# Altium schematic symbol library SparkFun-Connectors.SCHLIB: 399 symbols (part 4 of 4)
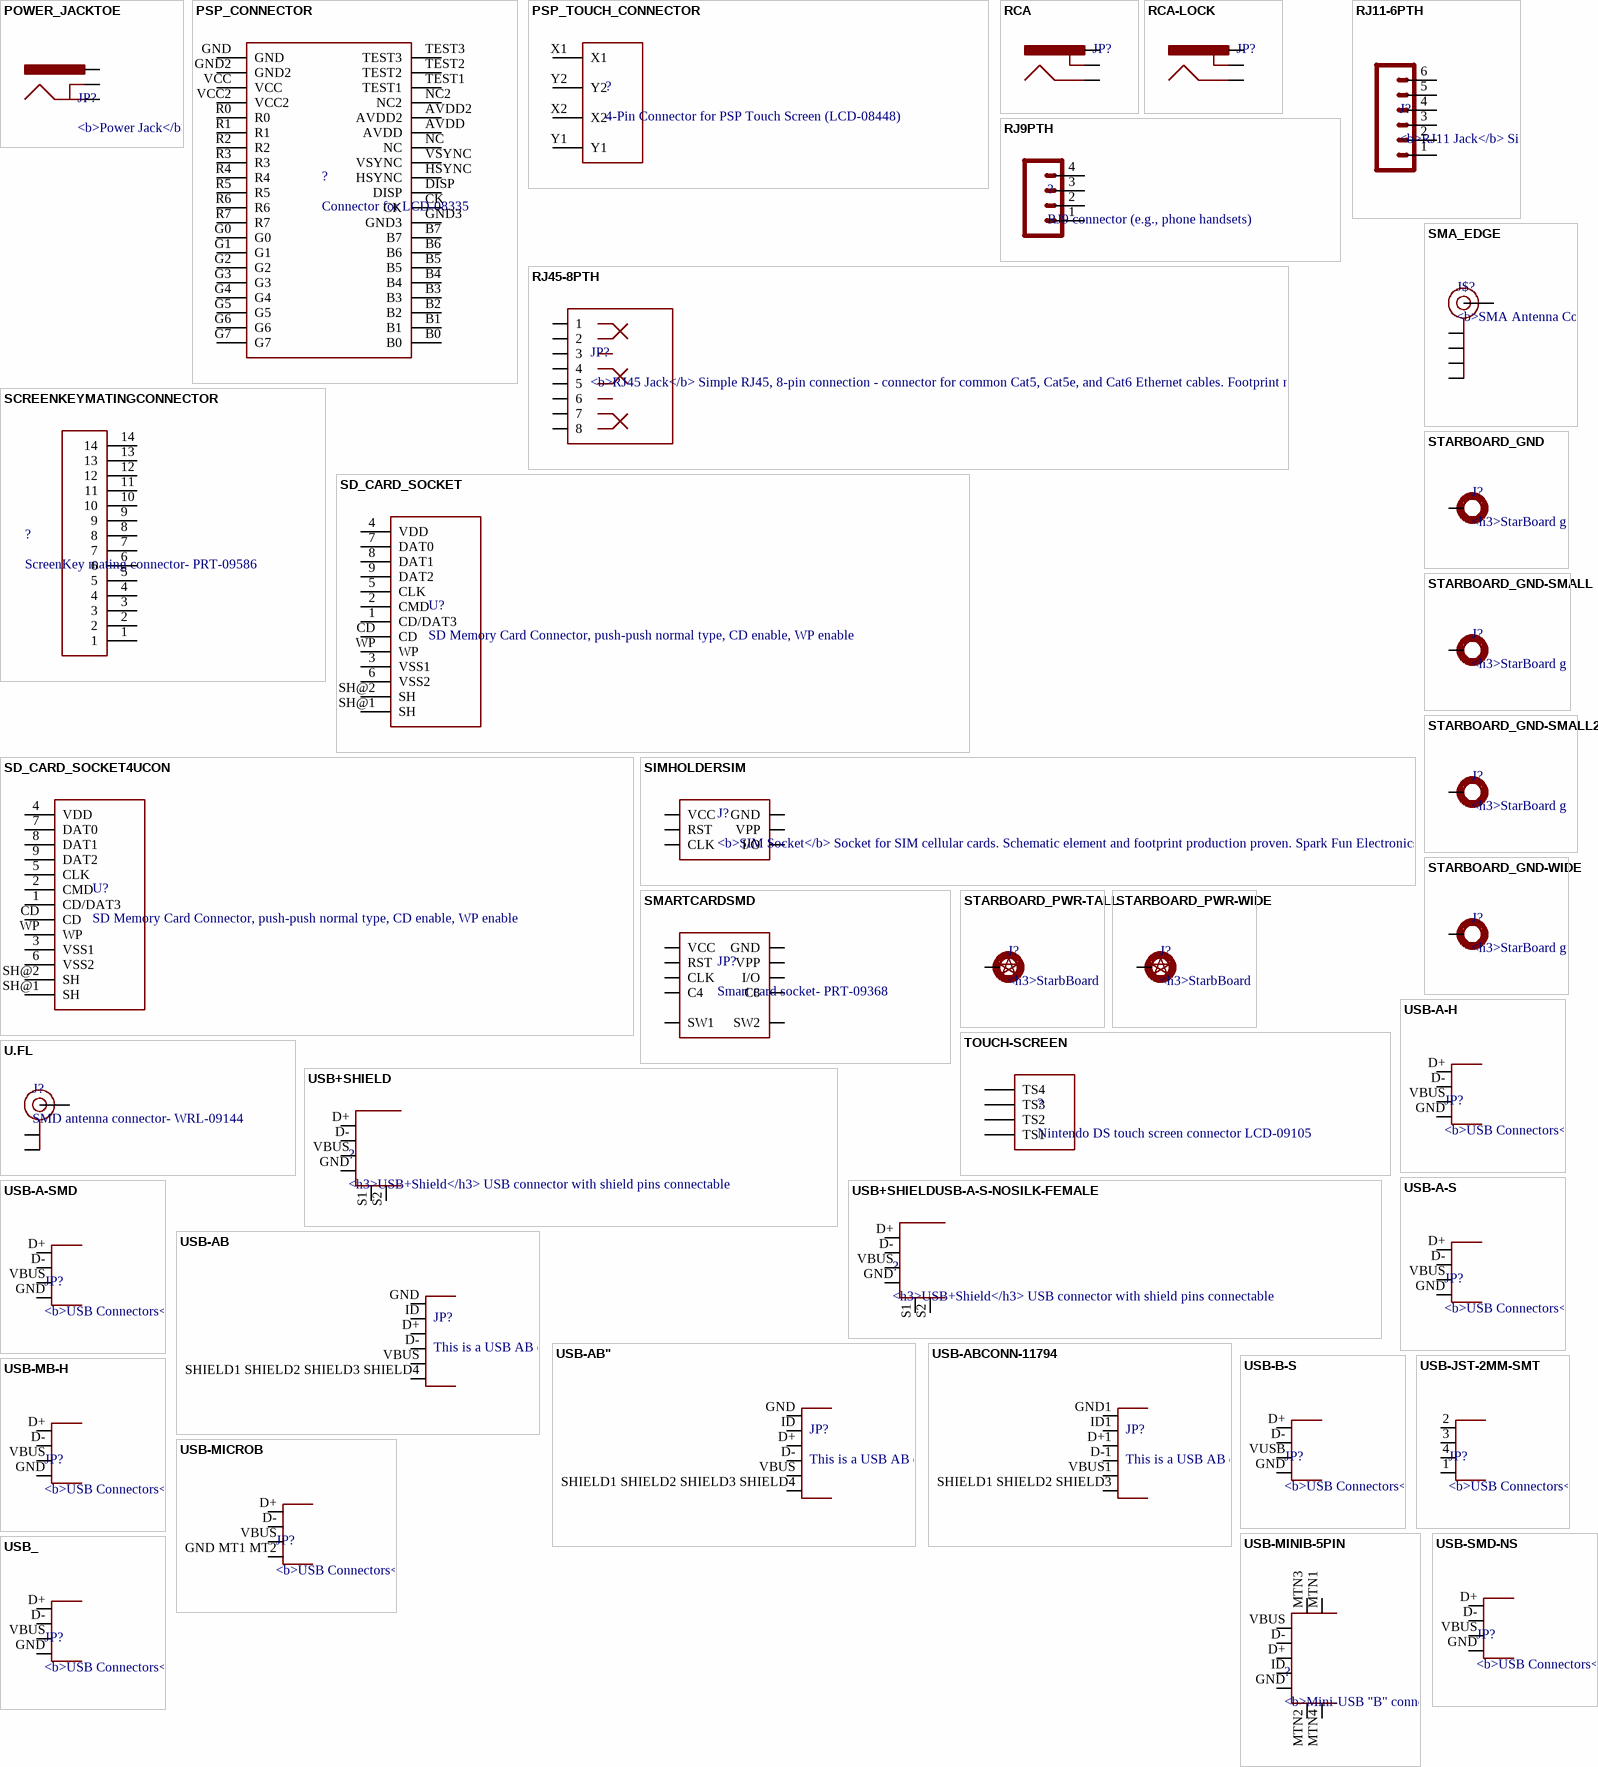
[diagram p17: symbols POWER_JACKTOE to USB_]

## SCREENKEYMATINGCONNECTOR
designator ?, comment ScreenKey mating connector- PRT-09586
footprint SCREENKEYMATINGCONNECTOR
pins: 1, 2, 3, 4, 5, 6, 7, 8, 9, 10, 11, 12, 13, 14

## SD_CARD_SOCKET
designator U?, comment SD Memory Card Connector, push-push normal type, CD enable, WP enable
footprint SD_1:1
pins: 1 CD/DAT3, 2 CMD, 3 VSS1 (power), 4 VDD (power), 5 CLK, 6 VSS2 (power), 7 DAT0, 8 DAT1, 9 DAT2, CD, SH@1 SH, SH@2 SH, WP

## SD_CARD_SOCKET4UCON
designator U?, comment SD Memory Card Connector, push-push normal type, CD enable, WP enable
footprint SDCARD_4UCONN
pins: 1 CD/DAT3, 2 CMD, 3 VSS1 (power), 4 VDD (power), 5 CLK, 6 VSS2 (power), 7 DAT0, 8 DAT1, 9 DAT2, CD, SH@1 SH, SH@2 SH, WP

## SIMHOLDERSIM
designator J?, comment <b>SIM Socket</b> / Socket for SIM cellular cards. Schematic element and footprint production proven. Spark Fun Electronics SKU : PRT-00548
PROD_ID: CONN-08536
footprint SIMHOLDER
pins: C1 VCC (power), C2 RST, C3 CLK, C5 GND (power), C6 VPP, C7 I/O

## SMA_EDGE
designator J$?, comment <b>SMA Antenna Connector</b> / End launch SMA connector. The paste layer has been removed so that the connector can be hand soldered onto the board after reflow.
footprint SMA-EDGE
pins: GND@0 GND, GND@1 GND, GND@2 GND, GND@3 GND, SIG SIGNAL

## SMARTCARDSMD
designator JP?, comment Smart card socket- PRT-09368
footprint SMARTCARD
pins: C1 VCC, C2 RST, C3 CLK, C4, C5 GND, C6 VPP, C7 I/O, C8, P1 SW1, P2 SW2

## STARBOARD_GND
designator J?, comment <h3>StarBoard ground Pad</h3> / Starboard pads sans the star cutout in top layer
footprint STARBOARD_GROUND
pins: GROUND MOUNT

## STARBOARD_GND-SMALL
designator J?, comment <h3>StarBoard ground Pad</h3> / Starboard pads sans the star cutout in top layer
footprint STARBOARD_GROUND_SMALL
pins: GROUND MOUNT

## STARBOARD_GND-SMALL2
designator J?, comment <h3>StarBoard ground Pad</h3> / Starboard pads sans the star cutout in top layer
footprint STARBOARD_GROUND_SMALL2
pins: GROUND MOUNT

## STARBOARD_GND-WIDE
designator J?, comment <h3>StarBoard ground Pad</h3> / Starboard pads sans the star cutout in top layer
footprint STARBOARD_GROUND_WIDE
pins: GROUND MOUNT

## STARBOARD_PWR-TALL
designator J?, comment <h3>StarbBoard Power pad</h3> / Power pads are designated by the star cutout in the top layer.
footprint STARBOARD_PWR
pins: PWR MOUNT

## STARBOARD_PWR-WIDE
designator J?, comment <h3>StarbBoard Power pad</h3> / Power pads are designated by the star cutout in the top layer.
footprint STARBOARD_PWR_WIDE
pins: GROUND MOUNT

## TOUCH-SCREEN
designator ?, comment Nintendo DS touch screen connector LCD-09105
footprint TOUCH-SCREEN
pins: P$1 TS4, P$2 TS3, P$3 TS2, P$4 TS1

## U.FL
designator J?, comment SMD antenna connector- WRL-09144
PROD_ID: CONN-09193
footprint U.FL
pins: P$1 GND, P$2 GND, P$3 SIGNAL

## USB+SHIELD
designator ?, comment <h3>USB+Shield</h3> / USB connector with shield pins connectable
footprint USB-B-PTH
pins: D+, D-, GND, S1, S2, VBUS

## USB+SHIELDUSB-A-S-NOSILK-FEMALE
designator ?, comment <h3>USB+Shield</h3> / USB connector with shield pins connectable
footprint USB-A-S-NOSILK-FEMALE
pins: D+, D-, GND, S1, S2, VBUS

## USB-A-H
designator JP?, comment <b>USB Connectors</b> / <p>USB-B-PTH is fully proven SKU : PRT-00139/CONN-08278 / <p>USB-miniB is fully proven SKU : PRT-00587 / <p>USB-A-PCB is untested. / <p>USB-A-H is throughly reviewed, but untested. Spark Fun Electronics SKU : PRT-00437 / <p>USB-B-SMT is throughly reviewed, but untested. Needs silkscreen touching up. / <p>USB-A-S has not been used/tested / <p>USB-MB-H has not been used/tested / <P>USB-MICROB has been used. CONN-09505
PROD_ID: CONN-08367
footprint USB-A-H
pins: D+, D-, GND, VBUS

## USB-A-S
designator JP?, comment <b>USB Connectors</b> / <p>USB-B-PTH is fully proven SKU : PRT-00139/CONN-08278 / <p>USB-miniB is fully proven SKU : PRT-00587 / <p>USB-A-PCB is untested. / <p>USB-A-H is throughly reviewed, but untested. Spark Fun Electronics SKU : PRT-00437 / <p>USB-B-SMT is throughly reviewed, but untested. Needs silkscreen touching up. / <p>USB-A-S has not been used/tested / <p>USB-MB-H has not been used/tested / <P>USB-MICROB has been used. CONN-09505
footprint USB-A-S
pins: D+, D-, GND, VBUS

## USB-A-SMD
designator JP?, comment <b>USB Connectors</b> / <p>USB-B-PTH is fully proven SKU : PRT-00139/CONN-08278 / <p>USB-miniB is fully proven SKU : PRT-00587 / <p>USB-A-PCB is untested. / <p>USB-A-H is throughly reviewed, but untested. Spark Fun Electronics SKU : PRT-00437 / <p>USB-B-SMT is throughly reviewed, but untested. Needs silkscreen touching up. / <p>USB-A-S has not been used/tested / <p>USB-MB-H has not been used/tested / <P>USB-MICROB has been used. CONN-09505
PROD_ID: CONN-09520
footprint USB-A-S-NOSILK-FEMALE
pins: D+, D-, GND, VBUS

## USB-AB
designator JP?, comment This is a USB AB connector that is compatible with USB OTG. i.e. this connector can serve as a host or device
footprint USB-AB-MICRO-SMD
pins: D+, D-, GND, ID USBID, SHIELD1 SHIELD2 SHIELD3 SHIELD4 SHIELD, VBUS

## USB-AB"
designator JP?, comment This is a USB AB connector that is compatible with USB OTG. i.e. this connector can serve as a host or device
footprint USB_AB_MICRO_1:1_V2
pins: D+, D-, GND, ID USBID, SHIELD1 SHIELD2 SHIELD3 SHIELD4 SHIELD, VBUS

## USB-ABCONN-11794
designator JP?, comment This is a USB AB connector that is compatible with USB OTG. i.e. this connector can serve as a host or device
PROD_ID: CONN-11794
footprint USB-AB-MICRO-SMD_V03
pins: D+1 D+, D-1 D-, GND1 GND, ID1 USBID, SHIELD1 SHIELD2 SHIELD3 SHIELD, VBUS1 VBUS

## USB-B-S
designator JP?, comment <b>USB Connectors</b> / <p>USB-B-PTH is fully proven SKU : PRT-00139/CONN-08278 / <p>USB-miniB is fully proven SKU : PRT-00587 / <p>USB-A-PCB is untested. / <p>USB-A-H is throughly reviewed, but untested. Spark Fun Electronics SKU : PRT-00437 / <p>USB-B-SMT is throughly reviewed, but untested. Needs silkscreen touching up. / <p>USB-A-S has not been used/tested / <p>USB-MB-H has not been used/tested / <P>USB-MICROB has been used. CONN-09505
footprint USB-B-SMT
pins: D+, D-, GND, VUSB VBUS

## USB-JST-2MM-SMT
designator JP?, comment <b>USB Connectors</b> / <p>USB-B-PTH is fully proven SKU : PRT-00139/CONN-08278 / <p>USB-miniB is fully proven SKU : PRT-00587 / <p>USB-A-PCB is untested. / <p>USB-A-H is throughly reviewed, but untested. Spark Fun Electronics SKU : PRT-00437 / <p>USB-B-SMT is throughly reviewed, but untested. Needs silkscreen touching up. / <p>USB-A-S has not been used/tested / <p>USB-MB-H has not been used/tested / <P>USB-MICROB has been used. CONN-09505
footprint S4B-PH
pins: 1 GND, 2 D+, 3 D-, 4 VBUS

## USB-MB-H
designator JP?, comment <b>USB Connectors</b> / <p>USB-B-PTH is fully proven SKU : PRT-00139/CONN-08278 / <p>USB-miniB is fully proven SKU : PRT-00587 / <p>USB-A-PCB is untested. / <p>USB-A-H is throughly reviewed, but untested. Spark Fun Electronics SKU : PRT-00437 / <p>USB-B-SMT is throughly reviewed, but untested. Needs silkscreen touching up. / <p>USB-A-S has not been used/tested / <p>USB-MB-H has not been used/tested / <P>USB-MICROB has been used. CONN-09505
footprint USB-MB-H
pins: D+, D-, GND, VBUS

## USB-MICROB
designator JP?, comment <b>USB Connectors</b> / <p>USB-B-PTH is fully proven SKU : PRT-00139/CONN-08278 / <p>USB-miniB is fully proven SKU : PRT-00587 / <p>USB-A-PCB is untested. / <p>USB-A-H is throughly reviewed, but untested. Spark Fun Electronics SKU : PRT-00437 / <p>USB-B-SMT is throughly reviewed, but untested. Needs silkscreen touching up. / <p>USB-A-S has not been used/tested / <p>USB-MB-H has not been used/tested / <P>USB-MICROB has been used. CONN-09505
PROD_ID: CONN-09505
footprint USB-MICROB
pins: D+, D-, GND MT1 MT2 GND, VBUS

## USB-MINIB-5PIN
designator ?, comment <b>Mini-USB "B" connector with 5th pin broken out.</b><p> / Created new symbol breaking out 5th "ID" pin in mini/micro USB connector spec.  See: http://en.wikipedia.org/wiki/Mini_usb#Cables.  Uses same footprint as 4-pin symbol.<p> / Also added pins to connect to mounting / shield pads if required (probably not generally needed as signals aren't shielded once they leave the connector).
footprint USB-MINIB
pins: D+, D-, GND, ID, MTN1 MTN2, MTN2 MTN3, MTN3 MTN1, MTN4, VBUS

## USB-SMD-NS
designator JP?, comment <b>USB Connectors</b> / <p>USB-B-PTH is fully proven SKU : PRT-00139/CONN-08278 / <p>USB-miniB is fully proven SKU : PRT-00587 / <p>USB-A-PCB is untested. / <p>USB-A-H is throughly reviewed, but untested. Spark Fun Electronics SKU : PRT-00437 / <p>USB-B-SMT is throughly reviewed, but untested. Needs silkscreen touching up. / <p>USB-A-S has not been used/tested / <p>USB-MB-H has not been used/tested / <P>USB-MICROB has been used. CONN-09505
footprint USB-MINIB-NOSTOP
pins: D+, D-, GND, VBUS

## USB_
designator JP?, comment <b>USB Connectors</b> / <p>USB-B-PTH is fully proven SKU : PRT-00139/CONN-08278 / <p>USB-miniB is fully proven SKU : PRT-00587 / <p>USB-A-PCB is untested. / <p>USB-A-H is throughly reviewed, but untested. Spark Fun Electronics SKU : PRT-00437 / <p>USB-B-SMT is throughly reviewed, but untested. Needs silkscreen touching up. / <p>USB-A-S has not been used/tested / <p>USB-MB-H has not been used/tested / <P>USB-MICROB has been used. CONN-09505
footprint USB-A-S-SILK-FEMALE
pins: D+, D-, GND, VBUS

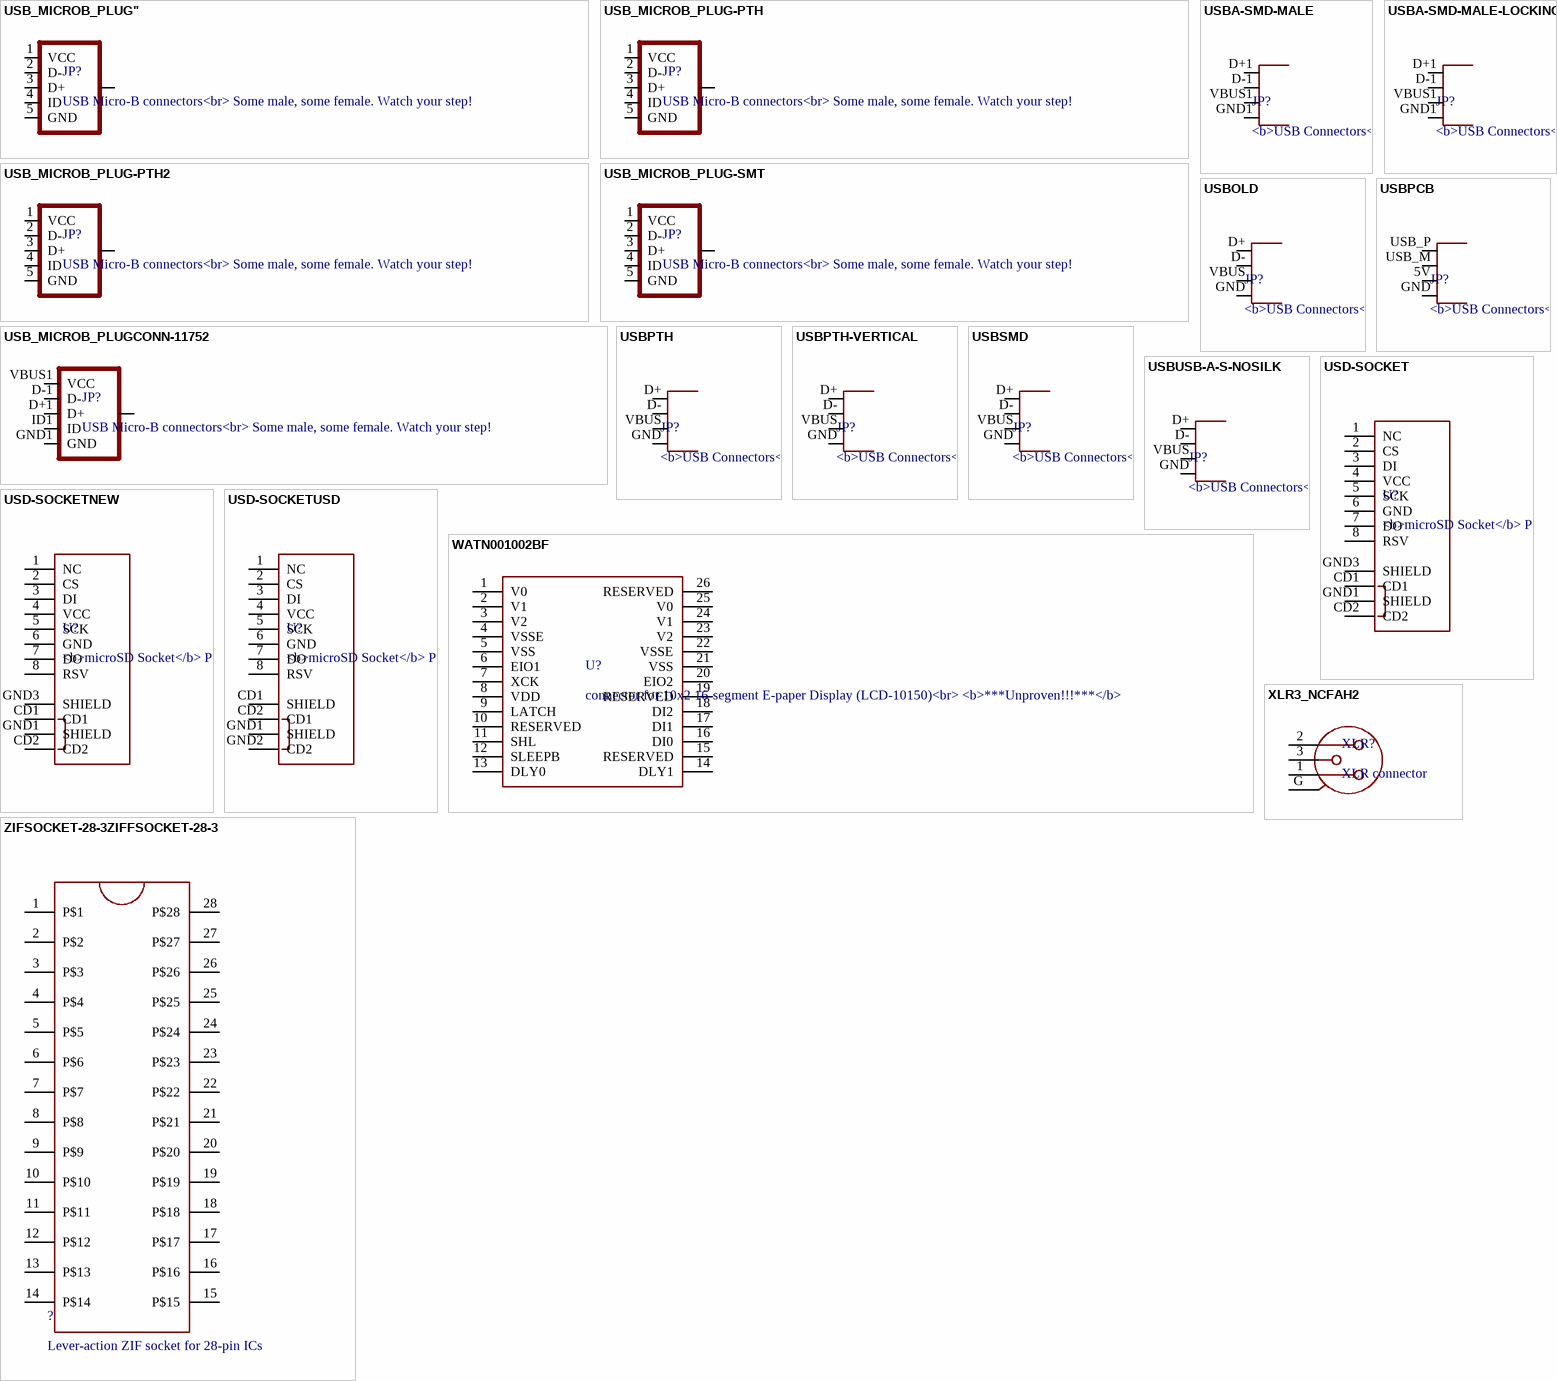
[diagram p13: symbols USB_MICROB_PLUG" to ZIFSOCKET-28-3ZIFFSOCKET-28-3]

## USB_MICROB_PLUG"
designator JP?, comment USB Micro-B connectors<br> / Some male, some female. Watch your step!
footprint MICRO-B-RA-SMT
pins: 1 VCC, 2 D-, 3 D+, 4 ID, 5 GND, SHIELD

## USB_MICROB_PLUG-PTH
designator JP?, comment USB Micro-B connectors<br> / Some male, some female. Watch your step!
footprint MICRO-B-RA-TH
pins: 1 VCC, 2 D-, 3 D+, 4 ID, 5 GND, SHIELD

## USB_MICROB_PLUG-PTH2
designator JP?, comment USB Micro-B connectors<br> / Some male, some female. Watch your step!
footprint MICRO-B-TH
pins: 1 VCC, 2 D-, 3 D+, 4 ID, 5 GND, SHIELD

## USB_MICROB_PLUG-SMT
designator JP?, comment USB Micro-B connectors<br> / Some male, some female. Watch your step!
PROD_ID: CONN-09900
footprint MICRO-B-SMT
pins: 1 VCC, 2 D-, 3 D+, 4 ID, 5 GND, P$6 SHIELD

## USB_MICROB_PLUGCONN-11752
designator JP?, comment USB Micro-B connectors<br> / Some male, some female. Watch your step!
PROD_ID: CONN-11752
footprint USB-B-MICRO-SMD_V03
pins: D+1 D+, D-1 D-, GND1 GND, ID1 ID, SHIELD1 SHIELD2 SHIELD3 SHIELD, VBUS1 VCC

## USBA-SMD-MALE
designator JP?, comment <b>USB Connectors</b> / <p>USB-B-PTH is fully proven SKU : PRT-00139/CONN-08278 / <p>USB-miniB is fully proven SKU : PRT-00587 / <p>USB-A-PCB is untested. / <p>USB-A-H is throughly reviewed, but untested. Spark Fun Electronics SKU : PRT-00437 / <p>USB-B-SMT is throughly reviewed, but untested. Needs silkscreen touching up. / <p>USB-A-S has not been used/tested / <p>USB-MB-H has not been used/tested / <P>USB-MICROB has been used. CONN-09505
footprint USB-A-SMT-MALE
pins: D+1 D+, D-1 D-, GND1 GND, VBUS1 VBUS

## USBA-SMD-MALE-LOCKING
designator JP?, comment <b>USB Connectors</b> / <p>USB-B-PTH is fully proven SKU : PRT-00139/CONN-08278 / <p>USB-miniB is fully proven SKU : PRT-00587 / <p>USB-A-PCB is untested. / <p>USB-A-H is throughly reviewed, but untested. Spark Fun Electronics SKU : PRT-00437 / <p>USB-B-SMT is throughly reviewed, but untested. Needs silkscreen touching up. / <p>USB-A-S has not been used/tested / <p>USB-MB-H has not been used/tested / <P>USB-MICROB has been used. CONN-09505
footprint USB-A-SMT-MALE-LOCKING
pins: D+1 D+, D-1 D-, GND1 GND, VBUS1 VBUS

## USBOLD
designator JP?, comment <b>USB Connectors</b> / <p>USB-B-PTH is fully proven SKU : PRT-00139/CONN-08278 / <p>USB-miniB is fully proven SKU : PRT-00587 / <p>USB-A-PCB is untested. / <p>USB-A-H is throughly reviewed, but untested. Spark Fun Electronics SKU : PRT-00437 / <p>USB-B-SMT is throughly reviewed, but untested. Needs silkscreen touching up. / <p>USB-A-S has not been used/tested / <p>USB-MB-H has not been used/tested / <P>USB-MICROB has been used. CONN-09505
footprint USB-MINIB-OLD
pins: D+, D-, GND, VBUS

## USBPCB
designator JP?, comment <b>USB Connectors</b> / <p>USB-B-PTH is fully proven SKU : PRT-00139/CONN-08278 / <p>USB-miniB is fully proven SKU : PRT-00587 / <p>USB-A-PCB is untested. / <p>USB-A-H is throughly reviewed, but untested. Spark Fun Electronics SKU : PRT-00437 / <p>USB-B-SMT is throughly reviewed, but untested. Needs silkscreen touching up. / <p>USB-A-S has not been used/tested / <p>USB-MB-H has not been used/tested / <P>USB-MICROB has been used. CONN-09505
footprint USB-A-PCB
pins: 5V VBUS, GND, USB_M D-, USB_P D+

## USBPTH
designator JP?, comment <b>USB Connectors</b> / <p>USB-B-PTH is fully proven SKU : PRT-00139/CONN-08278 / <p>USB-miniB is fully proven SKU : PRT-00587 / <p>USB-A-PCB is untested. / <p>USB-A-H is throughly reviewed, but untested. Spark Fun Electronics SKU : PRT-00437 / <p>USB-B-SMT is throughly reviewed, but untested. Needs silkscreen touching up. / <p>USB-A-S has not been used/tested / <p>USB-MB-H has not been used/tested / <P>USB-MICROB has been used. CONN-09505
PROD_ID: CONN-08278
footprint USB-B-PTH
pins: D+, D-, GND, VBUS

## USBPTH-VERTICAL
designator JP?, comment <b>USB Connectors</b> / <p>USB-B-PTH is fully proven SKU : PRT-00139/CONN-08278 / <p>USB-miniB is fully proven SKU : PRT-00587 / <p>USB-A-PCB is untested. / <p>USB-A-H is throughly reviewed, but untested. Spark Fun Electronics SKU : PRT-00437 / <p>USB-B-SMT is throughly reviewed, but untested. Needs silkscreen touching up. / <p>USB-A-S has not been used/tested / <p>USB-MB-H has not been used/tested / <P>USB-MICROB has been used. CONN-09505
footprint USB-B-PTH-VERTICAL
pins: D+, D-, GND, VBUS

## USBSMD
designator JP?, comment <b>USB Connectors</b> / <p>USB-B-PTH is fully proven SKU : PRT-00139/CONN-08278 / <p>USB-miniB is fully proven SKU : PRT-00587 / <p>USB-A-PCB is untested. / <p>USB-A-H is throughly reviewed, but untested. Spark Fun Electronics SKU : PRT-00437 / <p>USB-B-SMT is throughly reviewed, but untested. Needs silkscreen touching up. / <p>USB-A-S has not been used/tested / <p>USB-MB-H has not been used/tested / <P>USB-MICROB has been used. CONN-09505
PROD_ID: CONN-08193
footprint USB-MINIB
pins: D+, D-, GND, VBUS

## USBUSB-A-S-NOSILK
designator JP?, comment <b>USB Connectors</b> / <p>USB-B-PTH is fully proven SKU : PRT-00139/CONN-08278 / <p>USB-miniB is fully proven SKU : PRT-00587 / <p>USB-A-PCB is untested. / <p>USB-A-H is throughly reviewed, but untested. Spark Fun Electronics SKU : PRT-00437 / <p>USB-B-SMT is throughly reviewed, but untested. Needs silkscreen touching up. / <p>USB-A-S has not been used/tested / <p>USB-MB-H has not been used/tested / <P>USB-MICROB has been used. CONN-09505
footprint USB-A-S-NOSILK
pins: D+, D-, GND, VBUS

## USD-SOCKET
designator U?, comment <b>microSD Socket</b> / Push-push type uSD socket. Schematic element and footprint production proven. Spark Fun Electronics SKU : PRT-00127. tDoc lines correctly indicate media card edge positions when inserting (unlocked, locked, depressed). / NOTE: CD1 and CD2 are connected internally
PROD_ID: CONN-07820
footprint MICROSD_1:1
pins: 1 NC, 2 CS, 3 DI, 4 VCC, 5 SCK, 6 GND, 7 DO, 8 RSV, CD1, CD2, GND1 SHIELD, GND3 SHIELD

## USD-SOCKETNEW
designator U?, comment <b>microSD Socket</b> / Push-push type uSD socket. Schematic element and footprint production proven. Spark Fun Electronics SKU : PRT-00127. tDoc lines correctly indicate media card edge positions when inserting (unlocked, locked, depressed). / NOTE: CD1 and CD2 are connected internally
PROD_ID: CONN-07820
footprint MICRO-SD-SOCKET-PP
pins: 1 NC, 2 CS, 3 DI, 4 VCC, 5 SCK, 6 GND, 7 DO, 8 RSV, CD1, CD2, GND1 SHIELD, GND3 SHIELD

## USD-SOCKETUSD
designator U?, comment <b>microSD Socket</b> / Push-push type uSD socket. Schematic element and footprint production proven. Spark Fun Electronics SKU : PRT-00127. tDoc lines correctly indicate media card edge positions when inserting (unlocked, locked, depressed). / NOTE: CD1 and CD2 are connected internally
footprint USD-SOCKET-PP
pins: 1 NC, 2 CS, 3 DI, 4 VCC, 5 SCK, 6 GND, 7 DO, 8 RSV, CD1 SHIELD, CD2 CD1, GND1 SHIELD, GND2 CD2

## WATN001002BF
designator U?, comment connector for 10x2 16-segment E-paper Display (LCD-10150)<br> / <b>***Unproven!!!***</b>
footprint FFC26
pins: 1 V0, 2 V1, 3 V2, 4 VSSE, 5 VSS, 6 EIO1, 7 XCK, 8 VDD, 9 LATCH, 10 RESERVED, 11 SHL, 12 SLEEPB, 13 DLY0, 14 DLY1, 15 RESERVED, 16 DI0, 17 DI1, 18 DI2, 19 RESERVED, 20 EIO2, 21 VSS, 22 VSSE, 23 V2, 24 V1, 25 V0, 26 RESERVED

## XLR3_NCFAH2
designator XLR?, comment XLR connector
footprint XLR3_NC3FAH2
pins: 1, 2, 3, G

## ZIFSOCKET-28-3ZIFFSOCKET-28-3
designator ?, comment Lever-action ZIF socket for 28-pin ICs
footprint DIL28-3-ZIF_SOCKET
pins: 1 P$1, 2 P$2, 3 P$3, 4 P$4, 5 P$5, 6 P$6, 7 P$7, 8 P$8, 9 P$9, 10 P$10, 11 P$11, 12 P$12, 13 P$13, 14 P$14, 15 P$15, 16 P$16, 17 P$17, 18 P$18, 19 P$19, 20 P$20, 21 P$21, 22 P$22, 23 P$23, 24 P$24, 25 P$25, 26 P$26, 27 P$27, 28 P$28

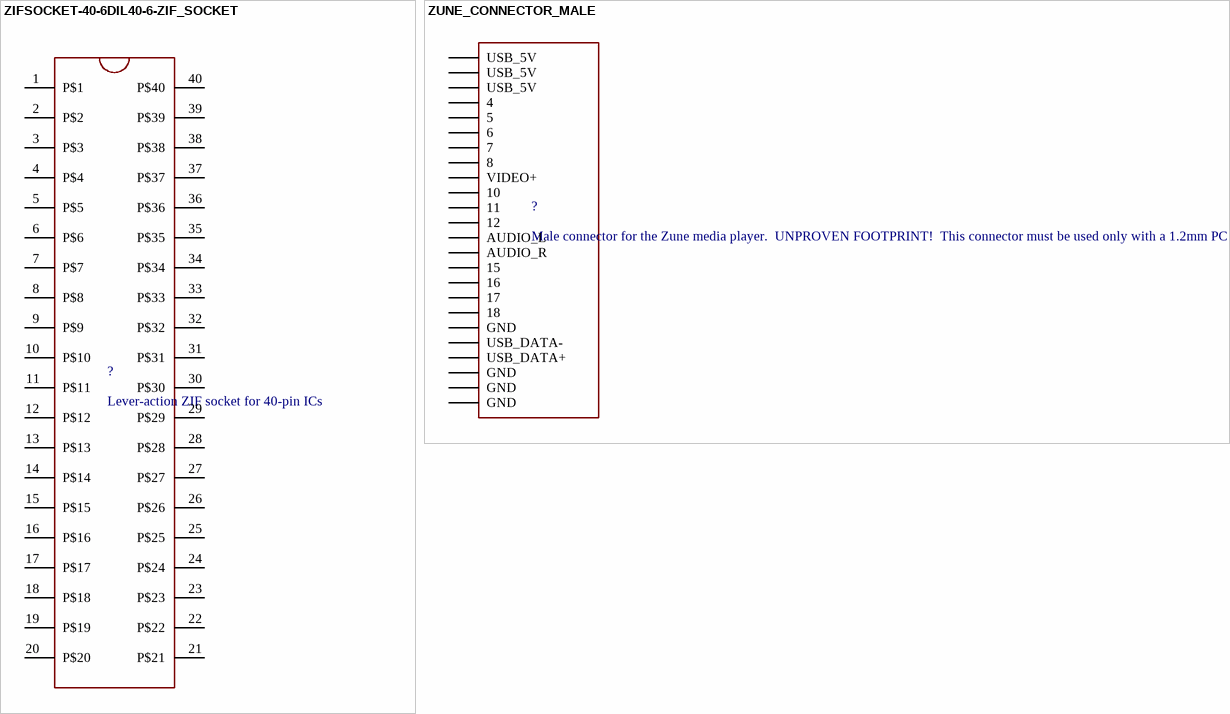
[diagram p14: symbols ZIFSOCKET-40-6DIL40-6-ZIF_SOCKET to ZUNE_CONNECTOR_MALE]

## ZIFSOCKET-40-6DIL40-6-ZIF_SOCKET
designator ?, comment Lever-action ZIF socket for 40-pin ICs
footprint DIL40-6-ZIF_SOCKET
pins: 1 P$1, 2 P$2, 3 P$3, 4 P$4, 5 P$5, 6 P$6, 7 P$7, 8 P$8, 9 P$9, 10 P$10, 11 P$11, 12 P$12, 13 P$13, 14 P$14, 15 P$15, 16 P$16, 17 P$17, 18 P$18, 19 P$19, 20 P$20, 21 P$21, 22 P$22, 23 P$23, 24 P$24, 25 P$25, 26 P$26, 27 P$27, 28 P$28, 29 P$29, 30 P$30, 31 P$31, 32 P$32, 33 P$33, 34 P$34, 35 P$35, 36 P$36, 37 P$37, 38 P$38, 39 P$39, 40 P$40

## ZUNE_CONNECTOR_MALE
designator ?, comment Male connector for the Zune media player.  UNPROVEN FOOTPRINT!  This connector must be used only with a 1.2mm PCB thickness.
footprint ZUNE_CONNECTOR_MALE
pins: P$1 USB_5V, P$2 USB_5V, P$3 USB_5V, P$4 4, P$5 5, P$6 6, P$7 7, P$8 8, P$9 VIDEO+, P$10 10, P$11 11, P$12 12, P$13 AUDIO_L, P$14 AUDIO_R, P$15 15, P$16 16, P$17 17, P$18 18, P$19 GND, P$20 USB_DATA-, P$21 USB_DATA+, P$22 GND, P$23 GND, P$24 GND